# EAGLE library part 87437-0843 (library custom)
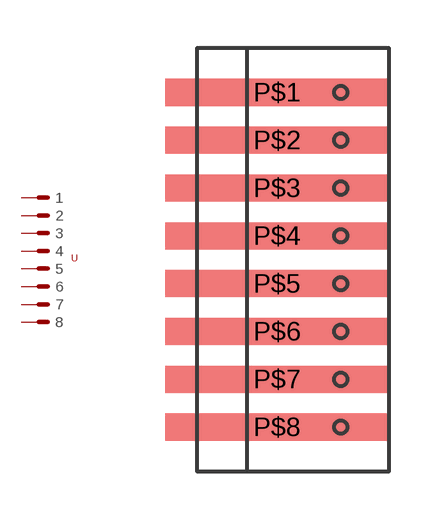
[diagram p14: symbol with the pads of 87437-0843; footprint 87437-0843]

Designator prefix -

## 87437-0843  [87437-0843]
P$1  1
P$2  2
P$3  3
P$4  4
P$5  5
P$6  6
P$7  7
P$8  8

## Footprint 87437-0843 (pad centres in mm)
smd 7 x 0.85: P$1 -0.04,5.27; P$2 -0.04,3.77; P$3 -0.04,2.27; P$4 -0.04,0.77; P$5 -0.04,-0.73; P$6 -0.04,-2.23; P$7 -0.04,-3.73; P$8 -0.04,-5.23